# Altium schematic symbol library Capacitor SMD.SchLib: 56 symbols
Pins are listed as number, name and electrical type; pins without a type are passive.

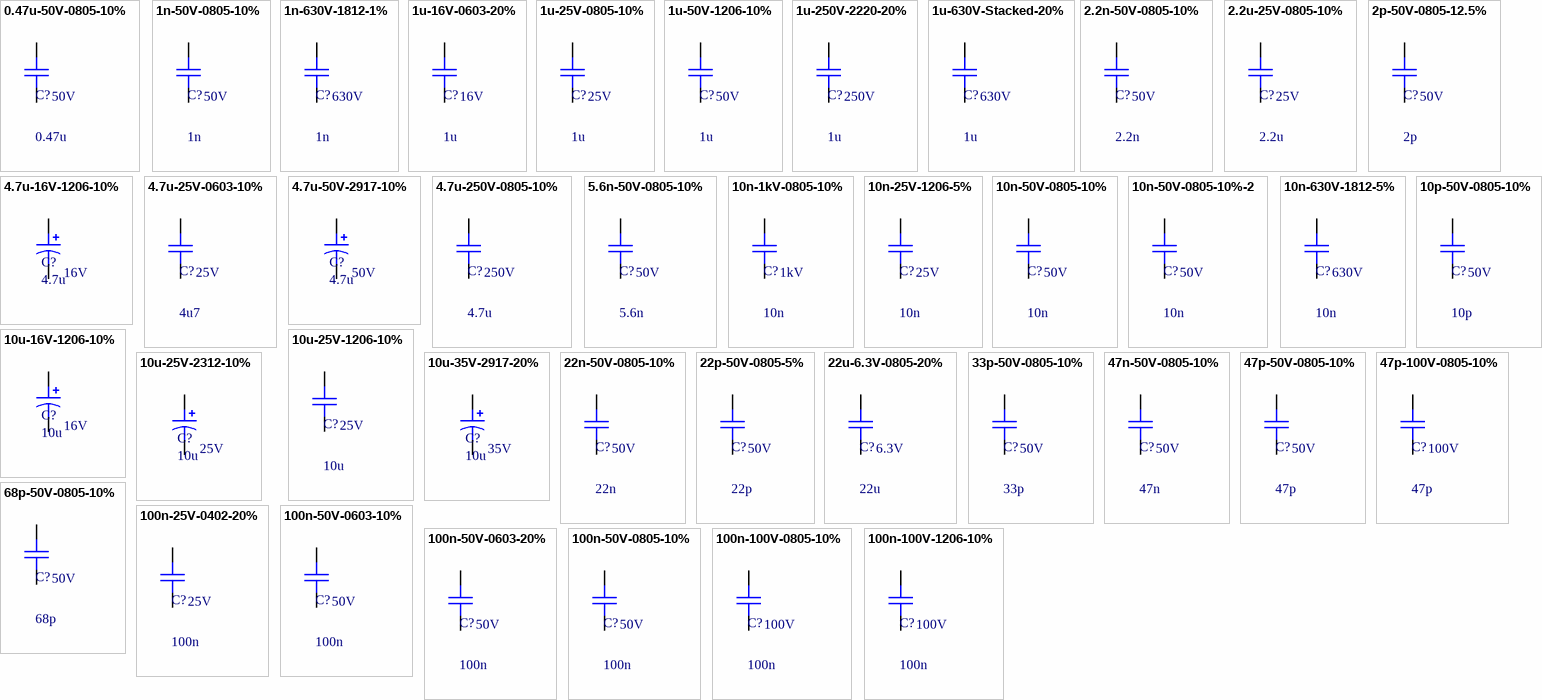
[diagram p0: symbols 0.47u-50V-0805-10% to 100n-100V-1206-10%]

## 0.47u-50V-0805-10%
designator C?, comment 0.47u  VoltageRating: 50V
Capacitor, 0.47uF, 50V Voltage Rating, 0805 Package; ManufacturerReference: C2012X7R1H474K125AB; ManufacturerName: TDK Corporation; InventoryNumber: CAP047; Material: MLCC; Other: 10%, X7R; PackageReference: 0805; DistributorReference: 445-7543-1-ND; DistributorName: Digikey; Value: 0.47uF; Category: Capacitor
footprint CAP 0805/2012 (Chip Capacitor, 2-Leads, Body 2.00x1.20mm, IPC Medium Density)
footprint CAP 0805/2012 RF (Chip Capacitor, 2-Leads, Body 2.00x1.20mm, IPC High Density)
pins: 1, 2

## 1n-50V-0805-10%
designator C?, comment 1n  VoltageRating: 50V
Capacitor, 1nF, 50V Voltage Rating, 0805 Package; ManufacturerReference: C0805C102K5RACTU; ManufacturerName: KEMET; InventoryNumber: CAP017; Material: MLCC; Other: 10%, X7R; PackageReference: 0805; DistributorReference: 399-1147-1-ND; DistributorName: Digikey; Value: 1nF; Category: Capacitor
footprint CAP 0805/2012 (Chip Capacitor, 2-Leads, Body 2.00x1.20mm, IPC Medium Density)
footprint CAP 0805/2012 RF (Chip Capacitor, 2-Leads, Body 2.00x1.20mm, IPC High Density)
pins: 1, 2

## 1n-630V-1812-1%
designator C?, comment 1n  VoltageRating: 630V
Capacitor, 1nF, 630V Voltage Rating, 1812 Package; ManufacturerReference: C1812C102FBGACTU; ManufacturerName: KEMET; InventoryNumber: 018; Material: Ceramic; Other: 1%; PackageReference: 1812 (4532 Metric); DistributorReference: 399-5554-1-ND; DistributorName: Digikey; Value: 1nF; Category: Capacitor
footprint CAP 1812/4532 KEMET (Chip Capacitor, 2-Leads, Body 4.50x3.20mm, IPC High Density)
pins: 1, 2

## 1u-16V-0603-20%
designator C?, comment 1u  VoltageRating: 16V
Capacitor, 1uF, 16V Voltage Rating, 0603 Package; ManufacturerReference: CGA3E1X7R1C105M080AC; ManufacturerName: TDK; Material: Ceramic; Other: 20%,X7R; PackageReference: 0603 (1608 Metric); DistributorReference: 445-5956-1-ND; DistributorName: Digikey; InventoryNumber: *; Value: 1u; Category: Capacitor
footprint CAP 0603/1608 TDK (Chip Capacitor, 2-Leads, Body 1.55x0.80mm, IPC High Density)
pins: 1, 2

## 1u-25V-0805-10%
designator C?, comment 1u  VoltageRating: 25V
Capacitor,1uF, 25V Voltage Rating, 0805 Package; ManufacturerReference: C2012X7R1E105K125AB; ManufacturerName: TDK Corporation; InventoryNumber: CAP052; Material: MLCC; Other: 10%, X7R; PackageReference: 0805; DistributorReference: 445-1354-1-ND; DistributorName: Digikey; Value: 1uF; Category: Capacitor
footprint CAP 0805/2012 (Chip Capacitor, 2-Leads, Body 2.00x1.20mm, IPC Medium Density)
footprint CAP 0805/2012 RF (Chip Capacitor, 2-Leads, Body 2.00x1.20mm, IPC High Density)
pins: 1, 2

## 1u-50V-1206-10%
designator C?, comment 1u  VoltageRating: 50V
Capacitor, 1uF, 50V Voltage Rating, 1206 Package; ManufacturerReference: C3216X7R1H105K160AB; ManufacturerName: TDK Corporation; InventoryNumber: CAP053; Material: MLCC; Other: 10%, X7R; PackageReference: 1206; DistributorReference: 445-1423-1-ND; DistributorName: Digikey; Value: 1uF; Category: Capacitor
footprint CAP 1206/3216 Murata (Chip Capacitor, 2-Leads, Body 3.20x1.60mm, IPC High Density)
pins: 1, 2

## 1u-250V-2220-20%
designator C?, comment 1u  VoltageRating: 250V
Capacitor, 1uF, 250V Voltage Rating, 2220 Package; ManufacturerReference: C5750X7R2E105M230KA; ManufacturerName: TDK Corporation; InventoryNumber: CAP057; Material: MLCC; Other: 20%, X7R; PackageReference: 2220; DistributorReference: 445-4532-1-ND; DistributorName: Digikey; Value: 1uF; Category: Capacitor
footprint CAP 2220/5750 TDK (Chip Capacitor, 2-Leads, Body 5.70x5.00mm, IPC High Density)
pins: 1, 2

## 1u-630V-Stacked-20%
designator C?, comment 1u  VoltageRating: 630V
Capacitor, 1uF, 630V Voltage Rating, Stacked Package; ManufacturerReference: CKG57NX7T2J105M500JH; ManufacturerName: TDK; InventoryNumber: CAP101; Material: MLCC; Other: 20%, X7T; PackageReference: Stacked; DistributorReference: 445-7110-1-ND; DistributorName: Digikey; Value: 1uF; Category: Capacitor
footprint CAP TDK Stacked 6050X55L (Chip Capacitor, 2-Leads, Body 6.00x5.00mm, IPC High Density)
pins: 1, 2

## 2.2n-50V-0805-10%
designator C?, comment 2.2n  VoltageRating: 50V
Capacitor, 2.2nF, 50V Voltage Rating, 0805 Package; ManufacturerReference: 08055C222KAT2A; ManufacturerName: AVX Corporation; InventoryNumber: CAP020; Material: MLCC; Other: 10%, X7R; PackageReference: 0805; DistributorReference: 478-1375-1-ND; DistributorName: Digikey; Value: 2.2nF; Category: Capacitor
footprint CAP 0805/2012 (Chip Capacitor, 2-Leads, Body 2.00x1.20mm, IPC Medium Density)
footprint CAP 0805/2012 RF (Chip Capacitor, 2-Leads, Body 2.00x1.20mm, IPC High Density)
pins: 1, 2

## 2.2u-25V-0805-10%
designator C?, comment 2.2u  VoltageRating: 25V
Capacitor, 2.2uF, 25V Voltage Rating, 0805 Package; ManufacturerReference: GRM21BR71E225KA73L; ManufacturerName: Murata Electronics North America; InventoryNumber: CAP102; Material: MLCC; Other: 10%, X7R; PackageReference: 0805; DistributorReference: 490-3331-1-ND; DistributorName: Digikey; Value: 2.2uF; Category: Capacitor
footprint CAP 0805/2012 (Chip Capacitor, 2-Leads, Body 2.00x1.20mm, IPC Medium Density)
footprint CAP 0805/2012 RF (Chip Capacitor, 2-Leads, Body 2.00x1.20mm, IPC High Density)
pins: 1, 2

## 2p-50V-0805-12.5%
designator C?, comment 2p  VoltageRating: 50V
Capacitor, 2pF, 50V Voltage Rating, 0805 Package; ManufacturerReference: CC0805CRNPO9BN2R0; ManufacturerName: Yageo; InventoryNumber: CAP001; Material: MLCC; Other: 12.5%, C0G; PackageReference: 0805; DistributorReference: 311-1091-1-ND; DistributorName: Digikey; Value: 2pF; Category: Capacitor
footprint CAP 0805/2012 (Chip Capacitor, 2-Leads, Body 2.00x1.20mm, IPC Medium Density)
footprint CAP 0805/2012 RF (Chip Capacitor, 2-Leads, Body 2.00x1.20mm, IPC High Density)
pins: 1, 2

## 4.7u-16V-1206-10%
designator C?, comment 4.7u  VoltageRating: 16V
Polarized Capacitor, 4.7uF, 16V Voltage Rating, 1206 Package; ManufacturerReference: TAJA475K016RNJ; ManufacturerName: AVX; Other: 10%, 4ohm-ESR; InventoryNumber: CAP107; Material: Tant; PackageReference: 1206; DistributorReference: 478-3868-1-ND; DistributorName: Digikey; Value: 4.7uF; Category: Capacitor Polarized
footprint CAP 1206/3216 Polarized AVX (Molded Capacitor, 2-Leads, Body 3.20x1.65mm, IPC High Density)
pins: 1, 2

## 4.7u-25V-0603-10%
designator C?, comment 4u7  VoltageRating: 25V
Capacitor, 4.7 uF , 25V Voltage Rating, 0603 Package; ManufacturerReference: CL10A475KA8NQNC; ManufacturerName: Samsung Electro-Mechanics; Material: Ceramic; Other: 10%, X5R; Value: 4.7uF; PackageReference: 0603 (1608 Metric); DistributorReference: 1276-1900-1-ND; DistributorName: Digikey; InventoryNumber: *; Category: Capacitor
footprint CAP 0603/1608 SAMSUNG (Chip Capacitor, 2-Leads, Body 1.60x0.80mm, IPC High Density)
pins: 1, 2

## 4.7u-50V-2917-10%
designator C?, comment 4.7u  VoltageRating: 50V
Polarized Capacitor, 4.7uF, 50V Voltage Rating, 2917 Package; ManufacturerReference: T491C106K025AT; ManufacturerName: KEMET; Other: 10%, 300mohm-ESR; InventoryNumber: CAP109; Material: Tant; PackageReference: 2917; DistributorReference: 399-8542-1-ND; DistributorName: Digikey; Value: 4.7uF; Category: Capacitor Polarized
footprint CAP 2917/7343 POLARIZED KEMET (Chip Capacitor, 2-Leads, Body 7.30x4.30mm, IPC High Density)
pins: 1, 2

## 4.7u-250V-0805-10%
designator C?, comment 4.7u  VoltageRating: 250V
Capacitor, 4.7uF, 250V Voltage Rating, 0805 Package; ManufacturerReference: C0805C475K8PACTU; ManufacturerName: KEMET; InventoryNumber: CAP108; Material: Ceramic; Other: 10%, Polyester; PackageReference: 0805; DistributorReference: EF2475-ND; DistributorName: Digikey; Value: 4.7uF; Category: Capacitor
footprint CAP 0805/2012 (Chip Capacitor, 2-Leads, Body 2.00x1.20mm, IPC Medium Density)
footprint CAP 0805/2012 RF (Chip Capacitor, 2-Leads, Body 2.00x1.20mm, IPC High Density)
pins: 1, 2

## 5.6n-50V-0805-10%
designator C?, comment 5.6n  VoltageRating: 50V
Capacitor, 5.6nF, 50V Voltage Rating, 0805 Package; ManufacturerReference: C0805C562K5RACTU; ManufacturerName: KEMET; InventoryNumber: CAP024; Material: MLCC; Other: 10%, X7R; PackageReference: 0805; DistributorReference: 399-1156-1-ND; DistributorName: Digikey; Value: 5.6nF; Category: Capacitor
footprint CAP 0805/2012 (Chip Capacitor, 2-Leads, Body 2.00x1.20mm, IPC Medium Density)
footprint CAP 0805/2012 RF (Chip Capacitor, 2-Leads, Body 2.00x1.20mm, IPC High Density)
pins: 1, 2

## 10n-1kV-0805-10%
designator C?, comment 10n  VoltageRating: 1kV
Capacitor, 10nF, 1kV Voltage Rating, 0805 Package; ManufacturerReference: 500R15W223KV4T; ManufacturerName: Johanson Dielectrics Inc.; InventoryNumber: CAP029; Material: MLCC; Other: 10%, X7R; PackageReference: 0805; DistributorReference: 709-1190-1-ND; DistributorName: Digikey; Value: 10nF; Category: Capacitor
footprint CAP 0805/2012 (Chip Capacitor, 2-Leads, Body 2.00x1.20mm, IPC Medium Density)
footprint CAP 0805/2012 RF (Chip Capacitor, 2-Leads, Body 2.00x1.20mm, IPC High Density)
pins: 1, 2

## 10n-25V-1206-5%
designator C?, comment 10n  VoltageRating: 25V
Capacitor, 10nF, 25V Voltage Rating, 1206 Package; ManufacturerReference: C3216C0G1E103J; ManufacturerName: TDK Corporation; InventoryNumber: CAP026; Material: MLCC; Other: 5%, C0G; PackageReference: 1206; DistributorReference: 445-2690-1-ND; DistributorName: Digikey; Value: 10nF; Category: Capacitor
footprint CAP 1206/3216 Murata (Chip Capacitor, 2-Leads, Body 3.20x1.60mm, IPC High Density)
pins: 1, 2

## 10n-50V-0805-10%
designator C?, comment 10n  VoltageRating: 50V
Capacitor, 10nF, 50V Voltage Rating, 0805 Package; ManufacturerReference: CL21B103KBANNNC; ManufacturerName: Samsung Electro-Mechanics; InventoryNumber: CAP027; Material: MLCC; Other: 10%, X7R; PackageReference: 0805; DistributorReference: 1276-1015-1-ND; DistributorName: Digikey; Value: 10nF; Category: Capacitor
footprint CAP 0805/2012 (Chip Capacitor, 2-Leads, Body 2.00x1.20mm, IPC Medium Density)
footprint CAP 0805/2012 RF (Chip Capacitor, 2-Leads, Body 2.00x1.20mm, IPC High Density)
pins: 1, 2

## 10n-50V-0805-10%-2
designator C?, comment 10n  VoltageRating: 50V
Capacitor, 10nF, 50V Voltage Rating, 0805 Package; ManufacturerReference: C0805C103K5RACTU; ManufacturerName: KEMET; InventoryNumber: CAP051; Material: MLCC; Other: 10%, X7R; PackageReference: 0805; DistributorReference: 399-1158-1-ND; DistributorName: Digikey; Value: 10nF; Category: Capacitor
footprint CAP 0805/2012 (Chip Capacitor, 2-Leads, Body 2.00x1.20mm, IPC Medium Density)
footprint CAP 0805/2012 RF (Chip Capacitor, 2-Leads, Body 2.00x1.20mm, IPC High Density)
pins: 1, 2

## 10n-630V-1812-5%
designator C?, comment 10n  VoltageRating: 630V
Capacitor, 10nF, 630V Voltage Rating, 1812 Package; ManufacturerReference: C4532C0G2J103J160KA; ManufacturerName: TDK; InventoryNumber: CAP028; Material: MLCC; Other: 5%, C0G; PackageReference: 1812; DistributorReference: 445-2360-1-ND; DistributorName: Digikey; Value: 10nF; Category: Capacitor
footprint CAP 1812/4532 TDK (Chip Capacitor, 2-Leads, Body 4.50x3.20mm, IPC High Density)
pins: 1, 2

## 10p-50V-0805-10%
designator C?, comment 10p  VoltageRating: 50V
Capacitor, 10pF, 50V Voltage Rating, 0805 Package; ManufacturerReference: C0805C100K5GACTU; ManufacturerName: KEMET; InventoryNumber: CAP002; Material: MLCC; Other: 10%, C0G (white) / 5% (transparent); PackageReference: 0805; DistributorReference: 399-7975-1-ND; DistributorName: Digikey; Value: 10pF; Category: Capacitor
footprint CAP 0805/2012 (Chip Capacitor, 2-Leads, Body 2.00x1.20mm, IPC Medium Density)
footprint CAP 0805/2012 RF (Chip Capacitor, 2-Leads, Body 2.00x1.20mm, IPC High Density)
pins: 1, 2

## 10u-16V-1206-10%
designator C?, comment 10u  VoltageRating: 16V
Polarized Capacitor, 10uF, 16V Voltage Rating, 1206 Package; ManufacturerReference: T491A106K016ZT; ManufacturerName: KEMET; Other: 10%, 3ohm-ESR; InventoryNumber: CAP111; Material: Tant; PackageReference: 1206; DistributorReference: 495-2236-1-ND; DistributorName: Digikey; Value: 10uF; Category: Capacitor Polarized
footprint CAP 1206/3216 Polarized AVX (Molded Capacitor, 2-Leads, Body 3.20x1.65mm, IPC High Density)
pins: 1, 2

## 10u-25V-1206-10%
designator C?, comment 10u  VoltageRating: 25V
Capacitor, 10uF, 25V Voltage Rating, 1206 Package; ManufacturerReference: GRM31CR61E106KA12L; ManufacturerName: Murata; InventoryNumber: CAP113; Material: MLCC; Other: 10%, X5R; PackageReference: 1206; DistributorReference: 490-3373-1-ND; DistributorName: Digikey; Value: 10uF; Category: Capacitor
footprint CAP 1206/3216 Murata (Chip Capacitor, 2-Leads, Body 3.20x1.60mm, IPC High Density)
pins: 1, 2

## 10u-25V-2312-10%
designator C?, comment 10u  VoltageRating: 25V
Polarized Capacitor, 10uF, 25V Voltage Rating, 2312 Package; ManufacturerReference: C3216C0G1E103J; ManufacturerName: TDK Corporation; Other: 10%, 1.5ohm-ESR; InventoryNumber: CAP112; Material: Tant; PackageReference: 2312; DistributorReference: 399-3734-1-ND; DistributorName: Digikey; Value: 10uF; Category: Capacitor Polarized
footprint CAP 1206/3216 Polarized AVX (Molded Capacitor, 2-Leads, Body 3.20x1.65mm, IPC High Density)
pins: 1, 2

## 10u-35V-2917-20%
designator C?, comment 10u  VoltageRating: 35V
Polarized Capacitor, 10uF, 35V Voltage Rating, 2917 Package; ManufacturerReference: TAJD106M035RNJ; ManufacturerName: AVX Corporation; Other: 20%, 1ohm-ESR; InventoryNumber: CAP114; Material: Tant; PackageReference: 2917; DistributorReference: 478-3916-1-ND; DistributorName: Digikey; Value: 10uF; Category: Capacitor Polarized
footprint CAP 2917/7343 POLARIZED KEMET (Chip Capacitor, 2-Leads, Body 7.30x4.30mm, IPC High Density)
pins: 1, 2

## 22n-50V-0805-10%
designator C?, comment 22n  VoltageRating: 50V
Capacitor, 22nF, 50V Voltage Rating, 0805 Package; ManufacturerReference: 500R15W223KV4T; ManufacturerName: Johanson Dielectrics Inc.; InventoryNumber: CAP030; Material: MLCC; Other: 10%, X7R; PackageReference: 0805; DistributorReference: 709-1190-1-ND; DistributorName: Digikey; Value: 22nF; Category: Capacitor
footprint CAP 0805/2012 (Chip Capacitor, 2-Leads, Body 2.00x1.20mm, IPC Medium Density)
footprint CAP 0805/2012 RF (Chip Capacitor, 2-Leads, Body 2.00x1.20mm, IPC High Density)
pins: 1, 2

## 22p-50V-0805-5%
designator C?, comment 22p  VoltageRating: 50V
Capacitor, 22pF, 50V Voltage Rating, 0805 Package; ManufacturerReference: 500R15N220JV4T; ManufacturerName: Johanson Dielectrics Inc.; InventoryNumber: CAP003; Material: MLCC; Other: 5%, C0G; PackageReference: 0805; DistributorReference: 709-1172-1-ND; DistributorName: Digikey; Value: 22pF; Category: Capacitor
footprint CAP 0805/2012 (Chip Capacitor, 2-Leads, Body 2.00x1.20mm, IPC Medium Density)
footprint CAP 0805/2012 RF (Chip Capacitor, 2-Leads, Body 2.00x1.20mm, IPC High Density)
pins: 1, 2

## 22u-6.3V-0805-20%
designator C?, comment 22u  VoltageRating: 6.3V
Capacitor, 22uF, 6.3V Voltage Rating, 0805 Package; ManufacturerReference: JMK212BJ226MG-T; ManufacturerName: Taiyo Yuden; InventoryNumber: CAP121; Material: MLCC; Other: 20%, X5R; PackageReference: 0805; DistributorReference: 587-1305-1-ND; DistributorName: Digikey; Value: 22uF; Category: Capacitor
footprint CAP 0805/2012 (Chip Capacitor, 2-Leads, Body 2.00x1.20mm, IPC Medium Density)
footprint CAP 0805/2012 RF (Chip Capacitor, 2-Leads, Body 2.00x1.20mm, IPC High Density)
pins: 1, 2

## 33p-50V-0805-10%
designator C?, comment 33p  VoltageRating: 50V
Capacitor, 33pF, 50V Voltage Rating, 0805 Package; ManufacturerReference: C0805C330K5GACTU; ManufacturerName: KEMET; InventoryNumber: CAP004; Material: MLCC; Other: 10%, C0G; PackageReference: 0805; DistributorReference: 399-8062-1-ND; DistributorName: Digikey; Value: 33pF; Category: Capacitor
footprint CAP 0805/2012 (Chip Capacitor, 2-Leads, Body 2.00x1.20mm, IPC Medium Density)
footprint CAP 0805/2012 RF (Chip Capacitor, 2-Leads, Body 2.00x1.20mm, IPC High Density)
pins: 1, 2

## 47n-50V-0805-10%
designator C?, comment 47n  VoltageRating: 50V
Capacitor, 47nF, 50V Voltage Rating, 0805 Package; ManufacturerReference: C0805C473K5RACTU; ManufacturerName: KEMET; InventoryNumber: CAP031; Material: MLCC; Other: 10%, X7R; PackageReference: 0805; DistributorReference: 399-1166-1-ND; DistributorName: Digikey; Value: 47nF; Category: Capacitor
footprint CAP 0805/2012 (Chip Capacitor, 2-Leads, Body 2.00x1.20mm, IPC Medium Density)
footprint CAP 0805/2012 RF (Chip Capacitor, 2-Leads, Body 2.00x1.20mm, IPC High Density)
pins: 1, 2

## 47p-50V-0805-10%
designator C?, comment 47p  VoltageRating: 50V
Capacitor, 47pF, 50V Voltage Rating, 0805 Package; ManufacturerReference: C0805C470K5GACTU; ManufacturerName: KEMET; InventoryNumber: CAP006; Material: MLCC; Other: 10%, C0G; PackageReference: 0805; DistributorReference: 399-8081-1-ND; DistributorName: Digikey; Value: 47pF; Category: Capacitor
footprint CAP 0805/2012 (Chip Capacitor, 2-Leads, Body 2.00x1.20mm, IPC Medium Density)
footprint CAP 0805/2012 RF (Chip Capacitor, 2-Leads, Body 2.00x1.20mm, IPC High Density)
pins: 1, 2

## 47p-100V-0805-10%
designator C?, comment 47p  VoltageRating: 100V
Capacitor, 47pF, 100V Voltage Rating, 0805 Package; ManufacturerReference: 08051A470KAT2A; ManufacturerName: AVX Corporation; InventoryNumber: CAP007; Material: MLCC; Other: 10%, C0G; PackageReference: 0805; DistributorReference: 478-3740-1-ND; DistributorName: Digikey; Value: 47pF; Category: Capacitor
footprint CAP 0805/2012 (Chip Capacitor, 2-Leads, Body 2.00x1.20mm, IPC Medium Density)
footprint CAP 0805/2012 RF (Chip Capacitor, 2-Leads, Body 2.00x1.20mm, IPC High Density)
pins: 1, 2

## 68p-50V-0805-10%
designator C?, comment 68p  VoltageRating: 50V
Capacitor, 68pF, 50V Voltage Rating, 0805 Package; ManufacturerReference: C0805C680K5GACTU; ManufacturerName: KEMET; InventoryNumber: CAP008; Material: MLCC; Other: 10%, C0G; PackageReference: 0805; DistributorReference: 399-9264-1-ND; DistributorName: Digikey; Value: 68pF; Category: Capacitor
footprint CAP 0805/2012 (Chip Capacitor, 2-Leads, Body 2.00x1.20mm, IPC Medium Density)
footprint CAP 0805/2012 RF (Chip Capacitor, 2-Leads, Body 2.00x1.20mm, IPC High Density)
pins: 1, 2

## 100n-25V-0402-20%
designator C?, comment 100n  VoltageRating: 25V
Capacitor, 100nF, 25V Voltage Rating, 0402 Package; ManufacturerReference: CL05F104ZA5NNNC; ManufacturerName: Samsung Electro-Mechanics; InventoryNumber: CAP019; Material: Ceramic; Other: -20%, +80% Y5V; PackageReference: 0402; DistributorReference: 1276-1739-1-ND; DistributorName: Digikey; Value: 100nF; Category: Capacitor
footprint CAP 0402/1005 Samsung Electro-Mechanics (Chip Capacitor, 2-Leads, Body 1.00x0.50mm, IPC High Density)
pins: 1, 2

## 100n-50V-0603-10%
designator C?, comment 100n  VoltageRating: 50V
Capacitor, 100nF, 50V Voltage Rating, 0603 Package; ManufacturerReference: GRM188R71H103KA01D; ManufacturerName: Murata; Material: Ceramic; Other: X7R, 10%; PackageReference: 0603 (1608 Metric); DistributorReference: 490-1512-2-ND; DistributorName: Digikey; InventoryNumber: *; Value: 100nF; Category: Capacitor
footprint CAP 0603/1608 MURATA (Chip Capacitor, 2-Leads, Body 1.60x0.80mm, IPC High Density)
pins: 1, 2

## 100n-50V-0603-20%
designator C?, comment 100n  VoltageRating: 50V
Capacitor, 100nF, 50V Voltage Rating, 0603 Package; ManufacturerReference: CL10F104ZB8NNNC; ManufacturerName: Samsung Electro-Mechanics; InventoryNumber: CAP011; Material: Ceramic; Other: -20%, +80% Y5V; PackageReference: 0603; DistributorReference: 1276-1012-1-ND; DistributorName: Digikey; Value: 100nF; Category: Capacitor
footprint CAP 0603/1608 (Chip Capacitor, 2-Leads, Body 1.60x0.80mm, IPC Medium Density)
footprint CAP 0603/1608 RF (Chip Capacitor, 2-Leads, Body 1.60x0.80mm, IPC High Density)
pins: 1, 2

## 100n-50V-0805-10%
designator C?, comment 100n  VoltageRating: 50V
Capacitor, 100nF, 50V Voltage Rating, 0805 Package; ManufacturerReference: 08055C104KAT2A; ManufacturerName: AVX Corporation; InventoryNumber: CAP033; Material: MLCC; Other: 10%, X7R; PackageReference: 0805; DistributorReference: 478-1395-1-ND; DistributorName: Digikey; Value: 100nF; Category: Capacitor
footprint CAP 0805/2012 (Chip Capacitor, 2-Leads, Body 2.00x1.20mm, IPC Medium Density)
footprint CAP 0805/2012 RF (Chip Capacitor, 2-Leads, Body 2.00x1.20mm, IPC High Density)
pins: 1, 2

## 100n-100V-0805-10%
designator C?, comment 100n  VoltageRating: 100V
Capacitor, 100nF, 100V Voltage Rating, 0805 Package; ManufacturerReference: C2012X7R2A104K125AA; ManufacturerName: TDK Corporation; InventoryNumber: CAP035; Material: MLCC; Other: 10%,  X7R; PackageReference: 0805; DistributorReference: 445-1418-1-ND; DistributorName: Digikey; Value: 100nF; Category: Capacitor
footprint CAP 0805/2012 (Chip Capacitor, 2-Leads, Body 2.00x1.20mm, IPC Medium Density)
footprint CAP 0805/2012 RF (Chip Capacitor, 2-Leads, Body 2.00x1.20mm, IPC High Density)
pins: 1, 2

## 100n-100V-1206-10%
designator C?, comment 100n  VoltageRating: 100V
Capacitor, 100nF, 100V Voltage Rating, 1206 Package; ManufacturerReference: C1206C104K1RACTU; ManufacturerName: KEMET; InventoryNumber: CAP036; Material: MLCC; Other: 10%, X7R; PackageReference: 1206; DistributorReference: 399-1805-1-ND; DistributorName: Digikey; Value: 100nF; Category: Capacitor
footprint CAP 1206/3216 Murata (Chip Capacitor, 2-Leads, Body 3.20x1.60mm, IPC High Density)
pins: 1, 2

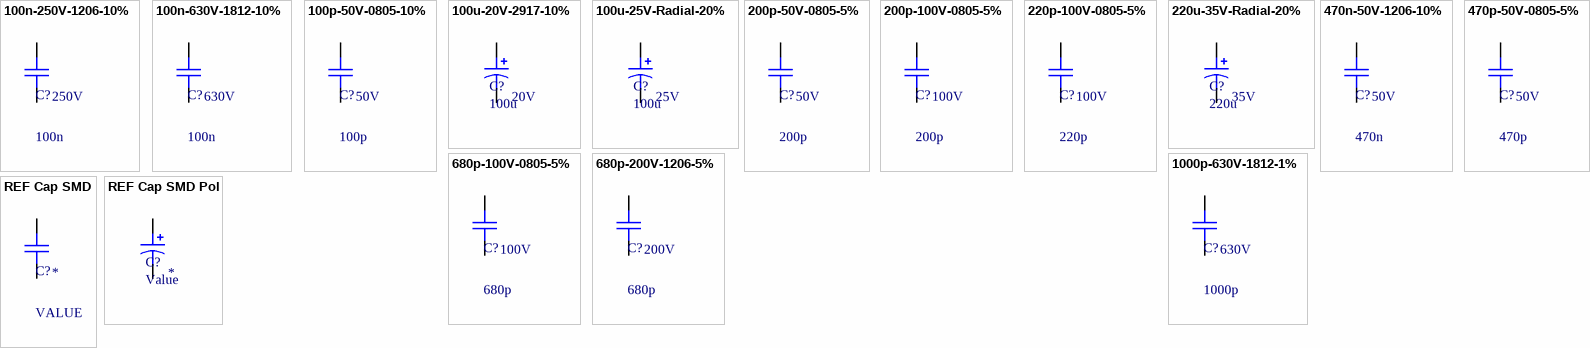
[diagram p1: symbols 100n-250V-1206-10% to REF Cap SMD Pol]

## 100n-250V-1206-10%
designator C?, comment 100n  VoltageRating: 250V
Capacitor, 100nF, 250V Voltage Rating, 1206 Package; ManufacturerReference: C3216X7R2E104K160AA; ManufacturerName: TDK Corporation; InventoryNumber: CAP037; Material: MLCC; Other: 10%, X7R; PackageReference: 1206; DistributorReference: 445-2287-1-ND; DistributorName: Digikey; Value: 100nF; Category: Capacitor
footprint CAP 1206/3216 Murata (Chip Capacitor, 2-Leads, Body 3.20x1.60mm, IPC High Density)
pins: 1, 2

## 100n-630V-1812-10%
designator C?, comment 100n  VoltageRating: 630V
Capacitor, 100nF, 630V Voltage Rating , 1812 Package; ManufacturerReference: C4532X7R2J104K230KA; ManufacturerName: TDK; Material: Ceramic; Other: 10%; PackageReference: 1812; DistributorReference: 445-2300-1-ND; DistributorName: Digikey; InventoryNumber: *; Value: 100n; Category: Capacitor
footprint CAP 1812/4532 TDK (Chip Capacitor, 2-Leads, Body 4.50x3.20mm, IPC High Density)
pins: 1, 2

## 100p-50V-0805-10%
designator C?, comment 100p  VoltageRating: 50V
Capacitor, 100pF, 50V Voltage Rating, 0805 Package; ManufacturerReference: C0805C101K5GACTU; ManufacturerName: KEMET; InventoryNumber: CAP009; Material: Ceramic; Other: 10%, C0G; PackageReference: 0805; DistributorReference: 399-1121-1-ND; DistributorName: Digikey; Value: 100pF; Category: Capacitor
footprint CAP 0805/2012 (Chip Capacitor, 2-Leads, Body 2.00x1.20mm, IPC Medium Density)
footprint CAP 0805/2012 RF (Chip Capacitor, 2-Leads, Body 2.00x1.20mm, IPC High Density)
pins: 1, 2

## 100u-20V-2917-10%
designator C?, comment 100u  VoltageRating: 20V
Polarized Capacitor, 100uF, 20V Voltage Rating, 2917 Package; ManufacturerReference: TR3D107K020C0080; ManufacturerName: Vishay Sprague; Other: 10%, 80mohm-ESR; InventoryNumber: CAP202; Material: Tant; PackageReference: 2917; DistributorReference: 718-1774-1-ND; DistributorName: Digikey; Value: 100uF; Category: Capacitor Polarized
footprint CAP 2917/7343 POLARIZED KEMET (Chip Capacitor, 2-Leads, Body 7.30x4.30mm, IPC High Density)
pins: 1, 2

## 100u-25V-Radial-20%
designator C?, comment 100u  VoltageRating: 25V
Polarized Capacitor, 100uF, 25V Voltage Rating, Radial Package; ManufacturerReference: EEE-1EA101UP; ManufacturerName: Panasonic Electronic Components; Other: 20%, 2000hr, 85C; InventoryNumber: CAP206; Material: Alum; PackageReference: Radial; DistributorReference: PCE3897CT-ND; DistributorName: Digikey; Value: 100uF; Category: Capacitor Polarized
footprint CAP RADIAL(SMD)/8383 25V PANASONIC
pins: 1, 2

## 200p-50V-0805-5%
designator C?, comment 200p  VoltageRating: 50V
Capacitor, 200pF, 50V Voltage Rating, 0805 Package; ManufacturerReference: GRM2165C1H201JA01D; ManufacturerName: Murata Electronics North America; InventoryNumber: CAP012; Material: MLCC; Other: 5%,C0G; PackageReference: 0805; DistributorReference: 490-10741-1-ND; DistributorName: Digikey; Value: 200pF; Category: Capacitor
footprint CAP 0805/2012 (Chip Capacitor, 2-Leads, Body 2.00x1.20mm, IPC Medium Density)
footprint CAP 0805/2012 RF (Chip Capacitor, 2-Leads, Body 2.00x1.20mm, IPC High Density)
pins: 1, 2

## 200p-100V-0805-5%
designator C?, comment 200p  VoltageRating: 100V
Capacitor, 200pF, 100V Voltage Rating, 0805 Package; ManufacturerReference: GRM2165C2A201JA01D; ManufacturerName: Murata Electronics North America; InventoryNumber: CAP013; Material: MLCC; Other: 5%,C0G; PackageReference: 0805; DistributorReference: 490-1606-1-ND; DistributorName: Digikey; Value: 200pF; Category: Capacitor
footprint CAP 0805/2012 (Chip Capacitor, 2-Leads, Body 2.00x1.20mm, IPC Medium Density)
footprint CAP 0805/2012 RF (Chip Capacitor, 2-Leads, Body 2.00x1.20mm, IPC High Density)
pins: 1, 2

## 220p-100V-0805-5%
designator C?, comment 220p  VoltageRating: 100V
Capacitor, 220pF, 100V Voltage Rating, 0805 Package; ManufacturerReference: C0805C221J1GACTU; ManufacturerName: KEMET; InventoryNumber: CAP216; Material: Ceramic; Other: 5% C0G; PackageReference: 0805; DistributorReference: 399-1128-2-ND; DistributorName: Digikey; Value: 220pF; Category: Capacitor
footprint CAP 0805/2012 (Chip Capacitor, 2-Leads, Body 2.00x1.20mm, IPC Medium Density)
footprint CAP 0805/2012 RF (Chip Capacitor, 2-Leads, Body 2.00x1.20mm, IPC High Density)
pins: 1, 2

## 220u-35V-Radial-20%
designator C?, comment 220u  VoltageRating: 35V
Polarized Capacitor, 220uF, 35V Voltage Rating, Radial Package; ManufacturerReference: EEE-FP1V221AP; ManufacturerName: Panasonic Electronic Components; Other: 20%, 80mohm-ESR, 2000hr, 105C; InventoryNumber: CAP208; Material: Alum; PackageReference: Radial; DistributorReference: PCE4444CT-ND; DistributorName: Digikey; Value: 220uF; Category: Capacitor Polarized
footprint CAP RADIAL(SMD)/8383 35V PANASONIC
pins: 1, 2

## 470n-50V-1206-10%
designator C?, comment 470n  VoltageRating: 50V
Capacitor, 470nF, 50V Voltage Rating, 1206 Package; ManufacturerReference: C3216X7R1H474K160AA; ManufacturerName: TDK Corporation; InventoryNumber: CAP046; Material: MLCC; Other: 10%, X7R; PackageReference: 1206; DistributorReference: 445-1380-1-ND; DistributorName: Digikey; Value: 470nF; Category: Capacitor
footprint CAP 1206/3216 Murata (Chip Capacitor, 2-Leads, Body 3.20x1.60mm, IPC High Density)
pins: 1, 2

## 470p-50V-0805-5%
designator C?, comment 470p  VoltageRating: 50V
Capacitor, 470pF, 50V Voltage Rating, 0805 Package; ManufacturerReference: 500R15N471JV4T; ManufacturerName: Johanson Dielectrics Inc.; InventoryNumber: CAP014; Material: MLCC; Other: 5%,C0G; PackageReference: 0805; DistributorReference: 709-1179-1-ND; DistributorName: Digikey; Value: 470pF; Category: Capacitor
footprint CAP 0805/2012 (Chip Capacitor, 2-Leads, Body 2.00x1.20mm, IPC Medium Density)
footprint CAP 0805/2012 RF (Chip Capacitor, 2-Leads, Body 2.00x1.20mm, IPC High Density)
pins: 1, 2

## 680p-100V-0805-5%
designator C?, comment 680p  VoltageRating: 100V
Capacitor, 680pF, 100V Voltage Rating, 0805 Package; ManufacturerReference: CL21C681JCCNNNC; ManufacturerName: Samsung Electro-Mechanics; InventoryNumber: CAP015; Material: MLCC; Other: 5%,C0G; PackageReference: 0805; DistributorReference: 1276-1835-1-ND; DistributorName: Digikey; Value: 680pF; Category: Capacitor
footprint CAP 0805/2012 (Chip Capacitor, 2-Leads, Body 2.00x1.20mm, IPC Medium Density)
footprint CAP 0805/2012 RF (Chip Capacitor, 2-Leads, Body 2.00x1.20mm, IPC High Density)
pins: 1, 2

## 680p-200V-1206-5%
designator C?, comment 680p  VoltageRating: 200V
Capacitor, 680pF, 200V Voltage Rating, 1206 Package; ManufacturerReference: 12062A681JAT2A; ManufacturerName: AVX Corporation; InventoryNumber: CAP016; Material: MLCC; Other: 5%,C0G; PackageReference: 1206; DistributorReference: 478-1435-1-ND; DistributorName: Digikey; Value: 680pF; Category: Capacitor
footprint CAP 1206/3216 Murata (Chip Capacitor, 2-Leads, Body 3.20x1.60mm, IPC High Density)
pins: 1, 2

## 1000p-630V-1812-1%
designator C?, comment 1000p  VoltageRating: 630V
Capacitor, 1000pF, 630V Voltage Rating, 1812 Package; ManufacturerReference: C1812C102FBGACTU; ManufacturerName: KEMET; InventoryNumber: CAP018; Material: Ceramic; Other: 1%, C0G; PackageReference: 1812; DistributorReference: 399-5554-1-ND; DistributorName: Digikey; Value: 1000pF; Category: Capacitor
footprint CAP 1812/4532 KEMET (Chip Capacitor, 2-Leads, Body 4.50x3.20mm, IPC High Density)
pins: 1, 2

## REF Cap SMD
designator C?, comment VALUE
Capacitor, , Voltage Rating, Package; PackageReference: *; DistributorReference: *; DistributorName: Digikey; InventoryNumber: *; Material: *; Other: *; Value: *; Category: Capacitor; VoltageRating: *
pins: 1, 2

## REF Cap SMD Pol
designator C?, comment Value
Polarized Capacitor, , Voltage Rating, Package; InventoryNumber: CAP; PackageReference: *; DistributorReference: *; DistributorName: Digikey; Value: *; Material: *; Category: Capacitor Polarized; VoltageRating: *
pins: 1, 2